# EAGLE library part MAAV_PERSONAL_LM5022 (library MAAV_13v1)
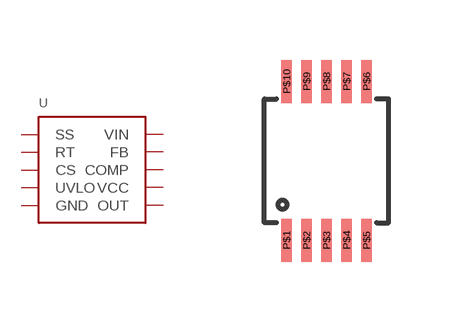
[diagram p7: symbol with the pads of MAAV_PERSONAL_MSOP-10; footprint MAAV_PERSONAL_MSOP-10]

Designator prefix U

## MAAV_PERSONAL_LM5022 (PARTNUM: LM5022MM/NOPBCT-ND)  [MAAV_PERSONAL_MSOP-10]
P$1  VIN
P$2  FB
P$3  COMP
P$4  VCC
P$5  OUT
P$6  GND
P$7  UVLO
P$8  CS
P$9  RT
P$10  SS

## Footprint MAAV_PERSONAL_MSOP-10 (pad centres in mm)
smd 0.27 x 1.075: P$1 -1,-1.988; P$2 -0.5,-1.988; P$3 0,-1.988; P$4 0.5,-1.988; P$5 1,-1.988; P$6 1,1.988; P$7 0.5,1.988; P$8 0,1.988; P$9 -0.5,1.988; P$10 -1,1.988